# Altium schematic symbol library KT315 KT361.SchLib: 109 symbols (part 1 of 2)
Pins are listed as number, name and electrical type; pins without a type are passive.

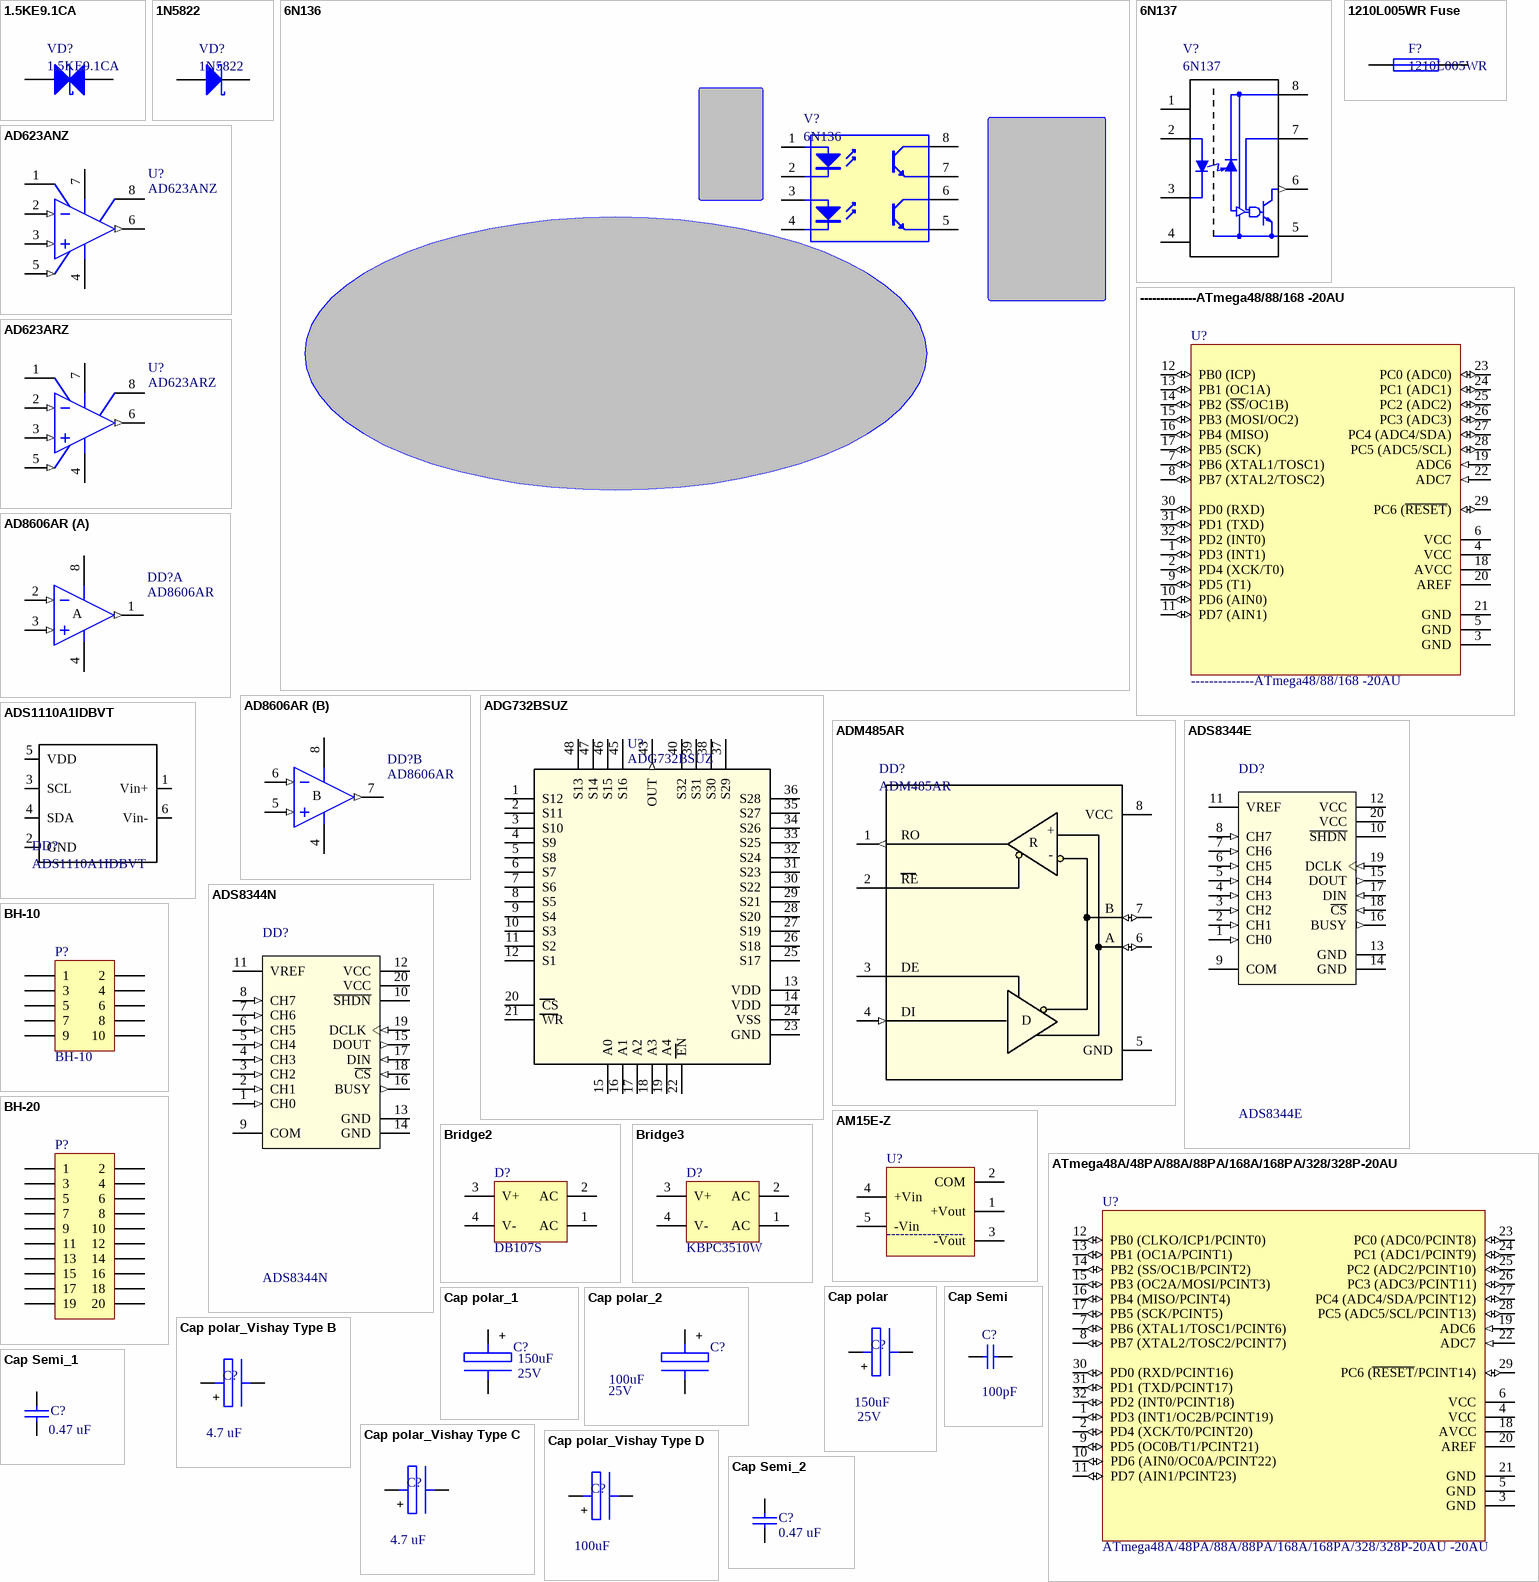
[diagram p0: symbols 1.5KE9.1CA to Cap Semi_2]

## 1.5KE9.1CA
designator VD?
Ограничитель напряжения 7.2В; Разработал: Сергеев
footprint DO-201AD (Diode, Axial; Body 9.5 x 5.6 mm (LxDia. max), Lead Dia. 1.32 mm (max))
footprint DO-201AD - VERTIKAL (Diode, Axial; Body 9.5 x 5.6 mm (LxDia. max), Lead Dia. 1.32 mm (max))
pins: 1 A, 2 K

## 1N5822
designator VD?
Диод шотки  3 A/80A, 40 V; Разработал: Сергеев; date_relize: 17.03.2011
footprint DO-201AD - VERTIKAL (Diode, Axial; Body 9.5 x 5.6 mm (LxDia. max), Lead Dia. 1.32 mm (max))
footprint DO-201AD - wa (Diode, Axial; Body 9.5 x 5.6 mm (LxDia. max), Lead Dia. 1.32 mm (max))
footprint DO-201AD (Diode, Axial; Body 9.5 x 5.6 mm (LxDia. max), Lead Dia. 1.32 mm (max))
pins: 1 A, 2 K

## 6N136
designator V?
Оптопара; Разработал: Сергеев
footprint DIP-8 (DIP; 8 Leads; Row Spacing 7.62 mm; Pitch 2.54 mm)
pins: 1 A "Anode", 2 K "Cathode", 3 A "Anode", 4 K "Cathode", 5 E "Emitter", 6 C "Collector", 7 E "Emitter", 8 C "Collector"

## 6N137
designator V?
Оптопара 10 Мбит/с; Разработал: Сергеев
footprint PDIP8 (8-Pin Plastic Dual In-Line Package (PDIP))
pins: 1 NC, 2 A "Anode", 3 K "Cathode", 4 NC, 5 GND (power), 6 Vo (out) "Output Voltage", 7 Ve "Enable Input Voltage Not to Exceed  V  CC  by more than 500mV", 8 Vcc (power)

## 1210L005WR Fuse
designator F?, comment 1210L005WR
Предохранитель 1210L005WR; Разработал: Сергеев; Фирма разработчик: WICKMANN; datasheet: ftp://ftp.efo.ru/pub/wickmann/Datasheets/Resettable/SMD1210.pdf
footprint SMD FUSE WICKMANN (Предохранитель СМД)
pins: 1, 2

## --------------ATmega48/88/168 -20AU
designator U?
8-Bit AVR Microcontroller with 8K Bytes of In-System Programmable Flash Memory; Published: 17-Sep-2003; LatestRevisionDate: 13-Apr-2006; LatestRevisionNote: IPC-7351 Footprint Added.; DatasheetVersion: 2486H-AVR-09/02; PackageVersion: revB, Oct-2001; PackageReference: 32A; Publisher: Altium Limited; PackageDescription: 32-Pin Thin Quad Flat Pack 0.8 mm Pitch; Code_JEDEC: MS-026-ABA; ComponentLink1Description: Manufacturer Link; ComponentLink1URL: http://www.atmel.com; ComponentLink2Description: Datasheet; ComponentLink2URL: http://www.atmel.com/dyn/resources/prod_documents/doc2486.pdf
3D model ATMEGA8L-32A (PCB3D Model)
footprint TQFP32_L (Thin QFP, 32-Leads, Body 7x7mm, Pitch 0.8mm, IPC High Density)
footprint TQFP32_M (Thin QFP, 32-Leads, Body 7x7mm, Pitch 0.8mm, IPC Low Density)
footprint TQFP32_N (Thin QFP, 32-Leads, Body 7x7mm, Pitch 0.8mm, IPC Medium Density)
pins: 1 PD3 (INT1) (io), 2 PD4 (XCK/T0) (io), 3 GND (power), 4 VCC (power), 5 GND (power), 6 VCC (power), 7 PB6 (XTAL1/TOSC1) (io), 8 PB7 (XTAL2/TOSC2) (io), 9 PD5 (T1) (io), 10 PD6 (AIN0) (io), 11 PD7 (AIN1) (io), 12 PB0 (ICP) (io), 13 PB1 (OC1A) (io), 14 PB2 (~{SS}/OC1B) (io), 15 PB3 (MOSI/OC2) (io), 16 PB4 (MISO) (io), 17 PB5 (SCK) (io), 18 AVCC (power), 19 ADC6 (in), 20 AREF, 21 GND (power), 22 ADC7 (in), 23 PC0 (ADC0) (io), 24 PC1 (ADC1) (io), 25 PC2 (ADC2) (io), 26 PC3 (ADC3) (io), 27 PC4 (ADC4/SDA) (io), 28 PC5 (ADC5/SCL) (io), 29 PC6 (~{RESET}) (io), 30 PD0 (RXD) (io), 31 PD1 (TXD) (io), 32 PD2 (INT0) (io)

## AD623ANZ
designator U?
Low-Cost, Low-Power Instrumentation Amplifier; Published: 21-Sep-2010; LatestRevisionDate: 21-Sep-2010; PackageVersion: revA; PackageReference: N-8; Publisher: Sergeev; PackageDescription: DIP; 8 Leads; Row Spacing 7.62 mm; Pitch 2.54 mm; ComponentLink1Description: Manufacturer Link; ComponentLink2Description: Datasheet
footprint DIP-8 (DIP; 8 Leads; Row Spacing 7.62 mm; Pitch 2.54 mm)
footprint DIP8-300 -- SO8-150-1.27 (DIP; 8 Leads; Row Spacing 7.62 mm; Pitch 2.54 mm, OIC, 8-Leads, Body 4.9x3.9mm, Pitch 1.27mm, IPC Medium Density)
pins: 1 RG, 2 -IN (in), 3 +IN (in), 4 V- (power), 5 REF (in), 6 OUT (out), 7 V+ (power), 8 RG

## AD623ARZ
designator U?
Low-Cost, Low-Power Instrumentation Amplifier; Published: 21-Sep-2010; LatestRevisionDate: 21-Sep-2010; PackageVersion: revA; PackageReference: N-8; Publisher: Sergeev; PackageDescription: DIP; 8 Leads; Row Spacing 7.62 mm; Pitch 2.54 mm; ComponentLink1Description: Manufacturer Link; ComponentLink2Description: Datasheet
footprint DIP8-300 -- SO8-150-1.27 (DIP; 8 Leads; Row Spacing 7.62 mm; Pitch 2.54 mm, OIC, 8-Leads, Body 4.9x3.9mm, Pitch 1.27mm, IPC Medium Density)
footprint SOP8_N (SOIC, 8-Leads, Body 4.9x3.9mm, Pitch 1.27mm, IPC Medium Density)
pins: 1 RG, 2 -IN (in), 3 +IN (in), 4 V- (power), 5 REF (in), 6 OUT (out), 7 V+ (power), 8 RG

## AD8606AR
designator DD?
Precision Dual Operational Amplifier,  Input 200fA; Note: Pin 8 is V+ and Case.; Published: 26-Nov-2009; Publisher: Sergeev; Dataqsheet: http://www.analog.com/static/imported-files/data_sheets/AD8605_8606_8608.pdf; Вevelopment: 03.03.2011
footprint SO8 182H_N (SOIC, 8-Leads, Body 4.9x3.9mm, Pitch 1.27mm, IPC Medium Density)
footprint SO8 182H_L (SOIC, 8-Leads, Body 4.9x3.9mm, Pitch 1.27mm, IPC High Density)
footprint SO8 182H_M (SOIC, 8-Leads, Body 4.9x3.9mm, Pitch 1.27mm, IPC Low Density)
pins on every part: 4 V- (power), 8 V+ (power)
part A pins: 1 OUT (out), 2 IN- (in), 3 IN+ (in)
part B pins: 5 IN+ (in), 6 IN- (in), 7 OUT (out)
part A text: A
part B text: B

## ADG732BSUZ
designator U?
Analog Multiplexers, Аналоговый Мультиплексор; Published: 26-Oct-2010; LatestRevisionDate: 26-Oсt-2010; PackageVersion: revA; PackageReference: TQFP48; Publisher: Sergeev; PackageDescription: 48-Lead Thin Plastic Quad Flatpack [TQFP]; Row Spacing 0.27 mm; Pitch 0.5 mm; ComponentLink1Description: Manufacturer Link; ComponentLink2Description: Datasheet; Datasheet: http://www.analog.com/static/imported-files/data_sheets/ADG726_732.pdf; Link: http://www.analog.com/ru/switchesmultiplexers/multiplexers-muxes/adg732/products/product.html
footprint TQFP48_M (48-Pin Thin Quad Flat Pack 0.5 mm Pitch, IPC Low Density)
footprint TQFP48_N (48-Pin Thin Quad Flat Pack 0.5 mm Pitch, IPC Medium Density)
footprint TQFP48_L (48-Pin Thin Quad Flat Pack 0.5 mm Pitch, IPC High Density)
pins: 1 S12, 2 S11, 3 S10, 4 S9, 5 S8, 6 S7, 7 S6, 8 S5, 9 S4, 10 S3, 11 S2, 12 S1, 13 VDD, 14 VDD, 15 A0, 16 A1, 17 A2, 18 A3, 19 A4, 20 CS, 21 WR, 22 EN, 23 GND, 24 VSS, 25 S17, 26 S18, 27 S19, 28 S20, 29 S21, 30 S22, 31 S23, 32 S24, 33 S25, 34 S26, 35 S27, 36 S28, 37 S29, 38 S30, 39 S31, 40 S32, 41 NC hidden, 42 NC hidden, 43 OUT (out), 44 NC hidden, 45 S16, 46 S15, 47 S14, 48 S13

## ADM485AR
designator DD?
Драйвер RS-485, Автоматическое определение направления передачи, приема информации; Разработал: Сергеев
footprint SO8 182H_N (SOIC, 8-Leads, Body 4.9x3.9mm, Pitch 1.27mm, IPC Medium Density)
pins: 1 RO (out) "proba", 2 RE "proba", 3 DE "proba", 4 DI (in) "proba", 5 GND (power) "proba", 6 A (io) "proba", 7 B (io) "proba", 8 VCC (power) "proba"
text: +; R; -; D

## ADS1110A1IDBVT
designator DD?
ADC 16 bit, Internal Ref 2.048V; Publisher: Sergeev; data: 08.12.2011; Datasheet: http://chip-nn.ru/doc/all/3138/3138.zip
footprint SOT23-6 (SOT-457/SC-74; 6 Leads; Body 3 x 3 mm, inc. leads (LxW max))
pins: 1 Vin+ "proba", 2 GND "proba", 3 SCL "proba", 4 SDA "proba", 5 VDD "proba", 6 Vin- "proba"

## ADS8344E
designator DD?
Published: 01-Mar-2012; LatestRevisionDate: 01-Mar-2012; LatestRevisionNote: (IPC-7351 Footprint Added.); DatasheetVersion: 2486H-AVR-09/02; PackageVersion: (revB, Oct-2001); PackageReference: DB; Publisher: Sergeev E. M.; PackageDescription: 20-Pin DB PLASTIC SMALL-OUTLINE Pack 0.65 mm Pitch; Code_JEDEC: (MS-026-ABA); ComponentLink1Description: Manufacturer Link; ComponentLink1URL: http://www.ti.com/lit/ds/symlink/ads8344.pdf; ComponentLink2Description: Datasheet; ComponentLink2URL: http://www.ti.com/lit/ds/symlink/ads8344.pdf
footprint DBQ020_N (SOP, 20-Leads, Body 8.7x3.9mm, Pitch 0.635mm, IPC Medium Density)
footprint DBQ020_L (SOP, 20-Leads, Body 8.7x3.9mm, Pitch 0.635mm, IPC High Density)
footprint DBQ020_M (SOP, 20-Leads, Body 8.7x3.9mm, Pitch 0.635mm, IPC Low Density)
footprint DBQ020 (SSOP; 20 Leads; Body Width 3.9 mm; Pitch 0.64 mm)
3D model DBQ020 (PCB3D Model)
pins: 1 CH0 (in), 2 CH1 (in), 3 CH2 (in), 4 CH3 (in), 5 CH4 (in), 6 CH5 (in), 7 CH6 (in), 8 CH7 (in), 9 COM (power), 10 ~{SHDN}, 11 VREF, 12 VCC (power), 13 GND (power), 14 GND (power), 15 DOUT (out), 16 BUSY (out), 17 DIN (in), 18 ~{CS} (in), 19 DCLK (in), 20 VCC (power)

## ADS8344N
designator DD?
Published: 01-Mar-2012; LatestRevisionDate: 01-Mar-2012; LatestRevisionNote: (IPC-7351 Footprint Added.); DatasheetVersion: 2486H-AVR-09/02; PackageVersion: (revB, Oct-2001); PackageReference: DB; Publisher: Sergeev E. M.; PackageDescription: 20-Pin DB PLASTIC SMALL-OUTLINE Pack 0.65 mm Pitch; Code_JEDEC: (MS-026-ABA); ComponentLink1Description: Manufacturer Link; ComponentLink1URL: http://www.ti.com/lit/ds/symlink/ads8344.pdf; ComponentLink2Description: Datasheet; ComponentLink2URL: http://www.ti.com/lit/ds/symlink/ads8344.pdf
footprint DB020_N (SOP, 20-Leads, Body 7.2x5.3mm, Pitch 0.65mm, IPC Medium Density)
footprint DB020_L (SOP, 20-Leads, Body 7.2x5.3mm, Pitch 0.65mm, IPC High Density)
footprint DB020_M (SOP, 20-Leads, Body 7.2x5.3mm, Pitch 0.65mm, IPC Low Density)
footprint DB020 (SSOP, Plastic; 20 Leads; Body Width 5.3 mm; Pitch 0.65 mm)
3D model DB020 (PCB3D Model)
pins: 1 CH0 (in), 2 CH1 (in), 3 CH2 (in), 4 CH3 (in), 5 CH4 (in), 6 CH5 (in), 7 CH6 (in), 8 CH7 (in), 9 COM (power), 10 ~{SHDN}, 11 VREF, 12 VCC (power), 13 GND (power), 14 GND (power), 15 DOUT (out), 16 BUSY (out), 17 DIN (in), 18 ~{CS} (in), 19 DCLK (in), 20 VCC (power)

## AM15E-Z
designator U?, comment -----------------
DC-DC Conventor; покупка: efo.ru; Published: 09-Feb-2010; PackageReference: AM15E-Z; Publisher: Сергеев; Datasheet: efo. powel.ru am15e-z.pdf
footprint AM15E-Z (DC-DC www.aimtec.com Series AM15E-Z)
pins: 1 +Vout, 2 COM, 3 -Vout, 4 +Vin, 5 -Vin

## ATmega48A/48PA/88A/88PA/168A/168PA/328/328P-20AU
designator U?, comment ATmega48A/48PA/88A/88PA/168A/168PA/328/328P-20AU -20AU
8-Bit AVR Microcontroller with 8K Bytes of In-System Programmable Flash Memory; Published: 17-Sep-2003; LatestRevisionDate: 13-Apr-2006; LatestRevisionNote: IPC-7351 Footprint Added.; DatasheetVersion: 2486H-AVR-09/02; PackageVersion: revB, Oct-2001; PackageReference: 32A; Publisher: Altium Limited; PackageDescription: 32-Pin Thin Quad Flat Pack 0.8 mm Pitch; Code_JEDEC: MS-026-ABA; ComponentLink1Description: Manufacturer Link; ComponentLink1URL: http://www.atmel.com; ComponentLink2Description: Datasheet; ComponentLink2URL: http://www.atmel.com/dyn/resources/prod_documents/doc2486.pdf
3D model ATMEGA8L-32A (PCB3D Model)
footprint TQFP32_L (Thin QFP, 32-Leads, Body 7x7mm, Pitch 0.8mm, IPC High Density)
footprint TQFP32_M (Thin QFP, 32-Leads, Body 7x7mm, Pitch 0.8mm, IPC Low Density)
footprint TQFP32_N (Thin QFP, 32-Leads, Body 7x7mm, Pitch 0.8mm, IPC Medium Density)
pins: 1 PD3 (INT1/OC2B/PCINT19) (io), 2 PD4 (XCK/T0/PCINT20) (io), 3 GND (power), 4 VCC (power), 5 GND (power), 6 VCC (power), 7 PB6 (XTAL1/TOSC1/PCINT6) (io), 8 PB7 (XTAL2/TOSC2/PCINT7) (io), 9 PD5 (OC0B/T1/PCINT21) (io), 10 PD6 (AIN0/OC0A/PCINT22) (io), 11 PD7 (AIN1/PCINT23) (io), 12 PB0 (CLKO/ICP1/PCINT0) (io), 13 PB1 (OC1A/PCINT1) (io), 14 PB2 (SS/OC1B/PCINT2) (io), 15 PB3 (OC2A/MOSI/PCINT3) (io), 16 PB4 (MISO/PCINT4) (io), 17 PB5 (SCK/PCINT5) (io), 18 AVCC (power), 19 ADC6 (in), 20 AREF, 21 GND (power), 22 ADC7 (in), 23 PC0 (ADC0/PCINT8) (io), 24 PC1 (ADC1/PCINT9) (io), 25 PC2 (ADC2/PCINT10) (io), 26 PC3 (ADC3/PCINT11) (io), 27 PC4 (ADC4/SDA/PCINT12) (io), 28 PC5 (ADC5/SCL/PCINT13) (io), 29 PC6 (~{RESET}/PCINT14) (io), 30 PD0 (RXD/PCINT16) (io), 31 PD1 (TXD/PCINT17) (io), 32 PD2 (INT0/PCINT18) (io)

## BH-10
designator P?
Header, 5-Pin, Dual row 2.54; LatestRevisionDate: 17-Jul-2002; LatestRevisionNote: Re-released for DXP Platform.; Publisher: Altium Limited
signal-integrity model Connector
footprint BH-10 HDR2X5 (Connector; Header; 5x2 Position)
footprint BH-10  2x5 mini (Connector; Header; 5x2 Position)
footprint BH-10 HDR2X5 - wide area (Connector; Header; 5x2 Position)
footprint BH-10  2x5 mini - wa (Connector; Header; 5x2 Position)
pins: 1, 2, 3, 4, 5, 6, 7, 8, 9, 10

## BH-20
designator P?  (value not drawn)
Header, 10-Pin, Dual row; LatestRevisionDate: 17-Jul-2002; LatestRevisionNote: Re-released for DXP Platform.; Publisher: Sergeev
signal-integrity model Connector
footprint BH20 2X10 (Connector; Header; 10x2 Position)
footprint BH20 2X10 MINI (Connector; Header; 10x2 Position)
footprint BH20 2X10 - wide area (Connector; Header; 10x2 wide area)
pins: 1, 2, 3, 4, 5, 6, 7, 8, 9, 10, 11, 12, 13, 14, 15, 16, 17, 18, 19, 20

## Bridge2
designator D?, comment DB107S
Diode Bridge 1A, 1000V, SMD; Published: 01-Feb-2010; PackageReference: DB-1S; Publisher: Сергеев; покупка: http://chip-nn.ru/47.php; Datasheet: http://chip-nn.ru/doc/diode-bridge/db107s/db107s.zip; Datasheet: http://www.terraelectronica.ru/pdf/DC/DB107.pdf
footprint DB-1S
pins: 1 AC, 2 AC, 3 V+, 4 V-

## Bridge3
designator D?, comment KBPC3510W
Diode Bridge 35A, 1000V, Na Platy; Published: 01-Feb-2010; PackageReference: DB-1S; Publisher: Сергеев; покупка: http://chip-nn.ru/47.php; Datasheet: http://chip-nn.ru/doc/diode-bridge/kbpc2510/kbpc2510.zip; Datasheet: http://www.terraelectronica.ru/pdf/DC/DB107.pdf
footprint KBPC (KBPC3510W  28,4mm x 28,4mm)
footprint KBL (KBL10  6,5mm x 19,5mm,  4A, 1000V)
pins: 1 AC, 2 AC, 3 V+, 4 V-

## Cap polar
designator C?  value 150uF  Volt: 25V  (hidden comment: Cap polar)
Capacitor (Model Sergeev); Published: 17-Mar-2010; Publisher: Sergeev
footprint OCK52-1 (8x22 Советский танталовый общая длинна 34 мм)
footprint Cap 8x12 (между выводами 4 мм, d =0.6)
footprint K53-1A (D=8 h=16 d=0.8 Советский, общая длинна min = 26 мм)
footprint Cap LZ D= 13 h= 35 d = 0.9 (между выводами 4.7 мм, d =0.9)
footprint Cap_Mini (D=8.4 d=0.6 S=3.5)
footprint LZ 12x26 2200 мкФ x 25 В (D=12.0 d=0.7 S=4.4)
footprint LZ 18.5x36 4700 мкФ x 35 В (D=18.5 d=0.8 S=7.0)
footprint Jamicon 108C2(M) WL 8.2x16.5 1000 мкФ x 10 В (D=8.2 d=0.6 S=3.5 h=16.5)
footprint SAMWHA RD ANA PET  13.0x21.0 1000 мкФ x 35 В (D=13.0 d=0.6 S=5.5 h=21.0)
footprint SAMWHA RD B4A PET  10.2x17.5 470 мкФ x 35 В (D=10.2 d=0.6 S=5.0 h=17.5)
footprint SD W1C 6.5x12 470 мкФ x 10 В (D=6.5 d=0.5 S=2.5 h=12)
signal-integrity model CAP Polar
simulation model CAP (Capacitor)
pins: 1, 2
text: +

## Cap polar_1
designator C?  value 150uF  Volts: 25V  (hidden comment: Cap polar_1)
Capacitor (Model Sergeev); Published: 17-Mar-2010; Publisher: Sergeev
footprint OCK52-1 (8x22 Советский танталовый общая длинна 34 мм)
footprint Cap 8x12 (между выводами 4 мм, d =0.6)
footprint K53-1A (D=8 h=16 d=0.8 Советский, общая длинна min = 26 мм)
footprint Cap LZ D= 13 h= 35 d = 0.9 (между выводами 4.7 мм, d =0.9)
footprint Cap_Mini (D=8.4 d=0.6 S=3.5)
footprint LZ 12x26 2200 мкФ x 25 В (D=12.0 d=0.7 S=4.4)
footprint Jamicon 108C2(M) WL 8.2x16.5 1000 мкФ x 10 В (D=8.2 d=0.6 S=3.5 h=16.5)
footprint SAMWHA RD ANA PET  13.0x21.0 1000 мкФ x 35 В (D=13.0 d=0.6 S=5.5 h=21.0)
footprint SAMWHA RD B4A PET  10.2x17.5 470 мкФ x 35 В (D=10.2 d=0.6 S=5.0 h=17.5)
footprint SD W1C 6.5x12 470 мкФ x 10 В (D=6.5 d=0.5 S=2.5 h=12)
footprint LZ 18.5x36 4700 мкФ x 35 В (D=18.5 d=0.8 S=7.0)
simulation model CAP (Cap Polar)
signal-integrity model Capacitors (Cap Polar)
pins: 1, 2
text: +

## Cap polar_2
designator C?  value 100uF  Volts: 25V  (hidden comment: Cap polar_2)
Capacitor (Model Sergeev); Published: 17-Mar-2010; Publisher: Sergeev
footprint OCK52-1 (8x22 Советский танталовый общая длинна 34 мм)
footprint Cap 8x12 (между выводами 4 мм, d =0.6)
footprint K53-1A (D=8 h=16 d=0.8 Советский, общая длинна min = 26 мм)
footprint Cap LZ D= 13 h= 35 d = 0.9 (между выводами 4.7 мм, d =0.9)
footprint Cap_Mini (D=8.4 d=0.6 S=3.5)
footprint LZ 12x26 2200 мкФ x 25 В (D=12.0 d=0.7 S=4.4)
footprint Jamicon 108C2(M) WL 8.2x16.5 1000 мкФ x 10 В (D=8.2 d=0.6 S=3.5 h=16.5)
footprint LZ 18.5x36 4700 мкФ x 35 В (D=18.5 d=0.8 S=7.0)
footprint SAMWHA RD ANA PET  13.0x21.0 1000 мкФ x 35 В (D=13.0 d=0.6 S=5.5 h=21.0)
footprint SAMWHA RD B4A PET  10.2x17.5 470 мкФ x 35 В (D=10.2 d=0.6 S=5.0 h=17.5)
footprint SD W1C 6.5x12 470 мкФ x 10 В (D=6.5 d=0.5 S=2.5 h=12)
simulation model CAP (Capacitors)
signal-integrity model Cap (Capacitors polar)
pins: 1, 2
text: +

## Cap polar_Vishay Type B
designator C?  value 4.7 uF  (hidden comment: Cap polar_Vishay Type B)
Capacitor (Model Sergeev); Published: 03-Dec-2010; Publisher: Sergeev
footprint 3528 - Type B (Capacitor, SM Tantalum; Body 3.5 x 2.8 mm (LxW typ))
simulation model Model Name (Model Description)
signal-integrity model Model Name (Model Description)
footprint 3528 - Type B - WA (Capacitor, SM Tantalum; Body 3.5 x 2.8 mm (LxW typ))
pins: 1, 2
text: +

## Cap polar_Vishay Type C
designator C?  value 4.7 uF  (hidden comment: Cap polar_Vishay Type C)
Capacitor (Model Sergeev); Published: 03-Dec-2010; Publisher: Sergeev
footprint 6032 - Type C (Capacitor, SM Tantalum; Body 6.0 x 3.2 mm (LxW typ))
simulation model Model Name (Model Description)
signal-integrity model Model Name (Model Description)
pins: 1, 2
text: +

## Cap polar_Vishay Type D
designator C?  value 100uF  (hidden comment: Cap polar_Vishay Type D)
Capacitor (Model Sergeev); Published: 17-Mar-2010; Publisher: Sergeev
footprint 7343 - Type D (Capacitor, SM Tantalum; Body 7.3 x 4.3 mm (LxW typ))
simulation model Model Name (Model Description)
signal-integrity model Model Name (Model Description)
pins: 1, 2
text: +

## Cap Semi
designator C?  value 100pF  (hidden comment: Cap Semi)
Capacitor (Semiconductor SIM Model); Published: 17-Mar-2010; PackageReference: C1206; Publisher: Sergeev
footprint C1206 (Chip Capacitor; Body 3.2 x 1.6 mm (LxW typ))
footprint C0805 (Chip Capacitor; Body 2.0 x 1.2 mm (LxW typ))
footprint 2012[0805] (Chip Resistor; Body 2.0 x 1.3 mm (LxW typ))
footprint К10-17б (Конденсатор Русский неполярный)
footprint C0805 - wa (Chip Capacitor; Body 2.0 x 1.2 mm (LxW typ))
pins: 1, 2

## Cap Semi_1
designator C?  value 0.47 uF  (hidden comment: Cap Semi_1)
Capacitor (Semiconductor SIM Model); Published: 17-Mar-2010; PackageReference: C1206; Publisher: Sergeev
footprint C1206 (Chip Capacitor; Body 3.2 x 1.6 mm (LxW typ))
footprint C0805 (Chip Capacitor; Body 2.0 x 1.2 mm (LxW typ))
footprint 2012[0805] (Chip Resistor; Body 2.0 x 1.3 mm (LxW typ))
footprint К10-17б (Конденсатор Русский неполярный)
pins: 1, 2

## Cap Semi_2
designator C?  value 0.47 uF  (hidden comment: Cap Semi_2)
Capacitor (Semiconductor SIM Model); Published: 17-Mar-2010; PackageReference: C1206; Publisher: Sergeev
footprint C1206 (Chip Capacitor; Body 3.2 x 1.6 mm (LxW typ))
footprint C0805 (Chip Capacitor; Body 2.0 x 1.2 mm (LxW typ))
footprint 2012[0805] (Chip Resistor; Body 2.0 x 1.3 mm (LxW typ))
footprint К10-17б (Конденсатор Русский неполярный)
pins: 1, 2

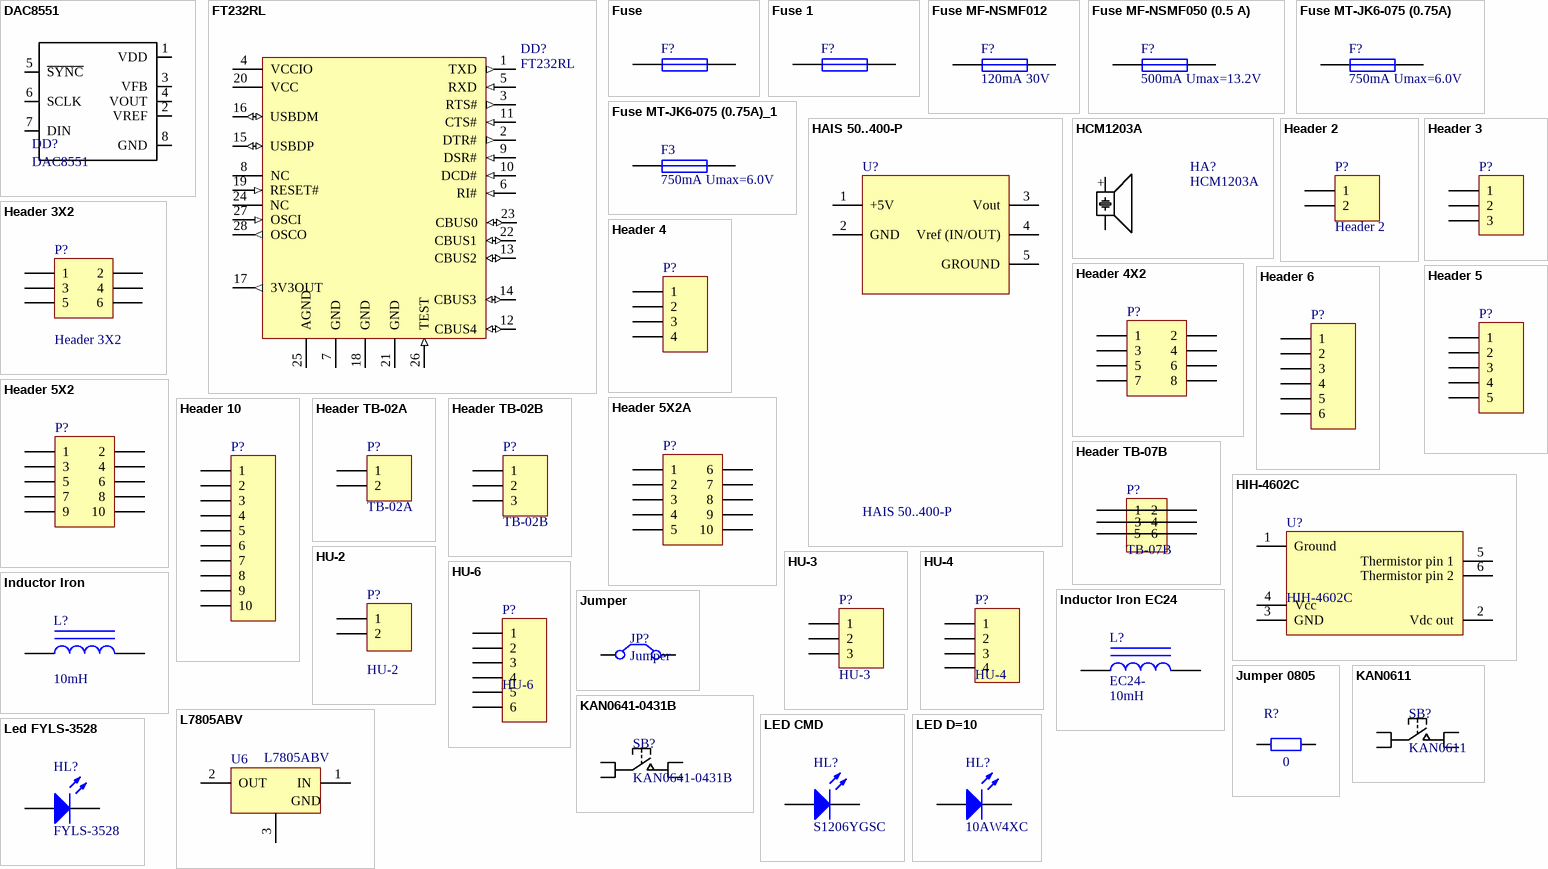
[diagram p1: symbols DAC8551 to Led FYLS-3528]

## DAC8551
designator DD?
DAC 16 bit; Publisher: Sergeev; data: 30.11.2009
footprint MSOP8
pins: 1 VDD "proba", 2 VREF "proba", 3 VFB "proba", 4 VOUT "proba", 5 ~{SYNC} "proba", 6 SCLK "proba", 7 DIN "proba", 8 GND "proba"

## FT232RL
designator DD?
USB UART Asynchronous Serial Data Transfer Chip, LQFP-32; Published: 8-Dec-2009; Publisher: Sergeev; PackageReference: 28 Pin SSOP Package Pin Out; PackageDescription: This package has a 5.30mm x 10.20mm body ( 7.80mm x 10.20mm including pins ). The pins are on a 0.65 mm pitch. The above mechanical drawing shows the SSOP-28 package – all dimensions are in millimetres.
footprint SSOP28 (SSOP, Plastic; 28 Leads; Body Width 5.3 mm; Pitch 0.65 mm)
pins: 1 TXD (out), 2 DTR# (out), 3 RTS# (out), 4 VCCIO (power), 5 RXD (in), 6 RI# (in), 7 GND (power), 8 NC, 9 DSR# (in), 10 DCD# (in), 11 CTS# (in), 12 CBUS4 (io), 13 CBUS2 (io), 14 CBUS3 (io), 15 USBDP (io), 16 USBDM (io), 17 3V3OUT (out), 18 GND (power), 19 RESET# (in), 20 VCC (power), 21 GND (power), 22 CBUS1 (io), 23 CBUS0 (io), 24 NC, 25 AGND (power), 26 TEST (in), 27 OSCI (in), 28 OSCO (out)

## Fuse
designator F?  (value not drawn)
Published: 8-Jun-2000; LatestRevisionDate: 17-Jul-2002; LatestRevisionNote: Re-released for DXP Platform.; PackageReference: PIN-W2/E2.8; Publisher: Altium Limited
simulation model FUSE (Spice Subcircuit)
footprint Fuse JK30-400 (4A) (Самовосстанавливающийся предохранитель 4A)
footprint Fuse JK30-200 (2A) (Самовосстанавливающийся предохранитель 2A)
footprint Fuse H520PT (5x20 mm)
footprint 1206 Fuse (Chip Fuse Body 3.1 x 1.6 mm (LxW typ))
pins: 1, 2

## Fuse 1
designator F?  (value not drawn)
Fuse; Published: 8-Jun-2000; LatestRevisionDate: 17-Jul-2002; LatestRevisionNote: Re-released for DXP Platform.; PackageReference: PIN-W2/E2.8; Publisher: Altium Limited
simulation model FUSE (Spice Subcircuit)
footprint Fuse (5x20 mm)
pins: 1, 2

## Fuse MF-NSMF012
designator F?, comment 120mA 30V
Fuse Предохранитель самовосстанавливающийсяSMD1206, Ih=0.12A, Umax=30V, Imax=10A, R=0,35..8,5 Ом; Продавец: Chip-nn.ru; Published: 8-Jun-2000; LatestRevisionDate: 17-Jul-2002; LatestRevisionNote: Re-released for DXP Platform.; PackageReference: PIN-W2/E2.8; Publisher: Altium Limited; Datasheet: http://chip-nn.ru/doc/all/2337/2337.zip
simulation model FUSE (Spice Subcircuit)
footprint 1206 Fuse (Chip Fuse Body 3.1 x 1.6 mm (LxW typ))
pins: 1, 2

## Fuse MF-NSMF050 (0.5 A)
designator F?, comment 500mA Umax=13.2V
Fuse Предохранитель самовосстанавливающийсяSMD1206, Ih=0.50A, Umax=13.2V, Imax=100A, R=0,15..0,7 Ом; Продавец: Chip-nn.ru; Published: 8-Jun-2000; LatestRevisionDate: 17-Jul-2002; LatestRevisionNote: Re-released for DXP Platform.; PackageReference: PIN-W2/E2.8; Publisher: Altium Limited; Datasheet: http://chip-nn.ru/doc/all/2337/2337.zip
simulation model FUSE (Spice Subcircuit)
footprint 1206 Fuse (Chip Fuse Body 3.1 x 1.6 mm (LxW typ))
pins: 1, 2

## Fuse MT-JK6-075 (0.75A)
designator F?, comment 750mA Umax=6.0V
Fuse Предохранитель самовосстанавливающийся Ih=0.75A, Umax=6.V, Imax=40A, R=0.2..0.5 Ом; Продавец: Chip-nn.ru; Published: 8-Jun-2000; LatestRevisionDate: 17-Jul-2002; LatestRevisionNote: Re-released for DXP Platform.; PackageReference: PIN-W2/E2.8; Publisher: Altium Limited; Datasheet: http://chip-nn.ru/doc/all/2337/2337.zip
simulation model FUSE (Spice Subcircuit)
footprint MT-JK6-075 (Fuse.Style F2. Предохранитель самовосстанавливающийся. 0.75A)
pins: 1, 2

## Fuse MT-JK6-075 (0.75A)_1
designator F3, comment 750mA Umax=6.0V
Fuse Предохранитель самовосстанавливающийся Ih=0.75A, Umax=6.V, Imax=40A, R=0.2..0.5 Ом; Продавец: Chip-nn.ru; Published: 8-Jun-2000; LatestRevisionDate: 17-Jul-2002; LatestRevisionNote: Re-released for DXP Platform.; PackageReference: PIN-W2/E2.8; Publisher: Altium Limited; Datasheet: http://chip-nn.ru/doc/all/2337/2337.zip
simulation model FUSE (Spice Subcircuit)
footprint MT-JK6-075 (Fuse.Style F2. Предохранитель самовосстанавливающийся. 0.75A)
pins: 1, 2

## HAIS 50..400-P
designator U?
Датчик тока фирмы LEM; Published: 17-Sep-2003; DatasheetVersion: 081224/9; PackageReference: LEM 50..400-P; Publisher: Sergeev; PackageDescription: 6-Pin; ComponentLink1Description: Manufacturer Link; ComponentLink2Description: Datasheet; Datasheet: http://www.lem.com/docs/products/hais_e.pdf; Datasheet rus: http://www.fek.by/doc/components/L_O/Lem/hais50-400-p.pdf
footprint HAIS 50..400-P (Датчик тока фирмы LEM)
pins: 1 +5V (power), 2 GND (power), 3 Vout (power), 4 Vref (IN/OUT) (power), 5 GROUND (power), 6 NC hidden

## HCM1203A
designator HA?
Zymmer. Electro-Magnetic Sound Generators; Published: 04-Nov-2010; LatestRevisionDate: 04-Nov-2010; PackageVersion: revA; Publisher: Sergeev; PackageDescription: D=12, h=9, d=0.6; ComponentLink1Description: Manufacturer Link; ComponentLink2Description: Datasheet; Datasheet: http://chip-nn.ru/doc/all/2417/2417.zip; Link: http://chip-nn.ru/doc/all/2417/2417.zip
footprint HCM1203A (D=12, h=9, d=0.6)
pins: 1 +, 2 -

## Header 2
designator P?
Header, 2-Pin; LatestRevisionDate: 27-Nov-2010; LatestRevisionNote: Re-released for DXP Platform.; Publisher: Sergeev
footprint HDR1X2 (Connector; Header; 2 Position)
signal-integrity model Connector
footprint HDR1X2H (Connector; Header; 2 Position; Right Angle)
footprint HDR1X2 - wide area (Connector; Header; 2 Position)
footprint HDR1X2H - wide area (Connector; Header; 2 Position; Right Angle)
pins: 1, 2

## Header 3
designator P?  (value not drawn)
Header, 3-Pin; LatestRevisionDate: 17-Jul-2002; LatestRevisionNote: Re-released for DXP Platform.; Publisher: Altium Limited
footprint HDR1X3 - wide area (Connector; Header; 3 Position)
footprint HDR1X3 (Connector; Header; 3 Position)
signal-integrity model Connector
pins: 1, 2, 3

## Header 3X2
designator P?
Header, 3-Pin, Dual row; LatestRevisionDate: 12-Dec-2010; LatestRevisionNote: Re-released for DXP Platform.; Publisher: Altium Limited
signal-integrity model Connector
footprint HDR2X3 (Connector; Header; 3x2 Position)
footprint HDR2X3 - wa (Connector; Header; 3x2 Position)
footprint HDR2X3H (Connector; Header; 3x2 Position; Right Angle)
footprint HDR2X3H - wa (Connector; Header; 3x2 Position; Right Angle)
pins: 1, 2, 3, 4, 5, 6

## Header 4
designator P?
Header, 4-Pin; LatestRevisionDate: 17-Jul-2002; LatestRevisionNote: Re-released for DXP Platform.; Publisher: Altium Limited
signal-integrity model Connector
footprint HDR1X4 - WA (Разъем двухрядный, шаг 2,54 мм.)
footprint HDR1X4 (Разъем двухрядный, шаг 2,54 мм.)
pins: 1, 2, 3, 4

## Header 4X2
designator P?
Header, 4-Pin, Dual row; LatestRevisionDate: 17-Jul-2002; LatestRevisionNote: Re-released for DXP Platform.; Publisher: Altium Limited
footprint HDR2X4 (Connector; Header; 4x2 Position)
signal-integrity model Connector
footprint HDR2X4 - wide area (Connector; Header; 4x2 Position)
pins: 1, 2, 3, 4, 5, 6, 7, 8

## Header 5
designator P?
Header, 5-Pin; LatestRevisionDate: 17-Jul-2002; LatestRevisionNote: Re-released for DXP Platform.; Publisher: Altium Limited
footprint HDR1X5 (Connector; Header; 5 Position)
signal-integrity model Connector
footprint HDR1X5 - wide area (Connector; Header; 5 Position)
pins: 1, 2, 3, 4, 5

## Header 5X2
designator P?
Header, 5-Pin, Dual row; LatestRevisionDate: 17-Jul-2002; LatestRevisionNote: Re-released for DXP Platform.; Publisher: Altium Limited
signal-integrity model Connector
footprint HDR2X5 - WA (Разъем двухрядный, шаг 2,54 мм.)
footprint HDR2X5 (Разъем двухрядный, шаг 2,54 мм.)
pins: 1, 2, 3, 4, 5, 6, 7, 8, 9, 10

## Header 5X2A
designator P?
Header, 5-Pin, Dual row; LatestRevisionDate: 17-Jul-2002; LatestRevisionNote: Re-released for DXP Platform.; Publisher: Altium Limited
signal-integrity model Connector
footprint HDR2X5_CEN - WA (Разъем двухрядный, шаг 2,54 мм.)
footprint HDR2X5_CEN (Разъем двухрядный, шаг 2,54 мм.)
pins: 1, 2, 3, 4, 5, 6, 7, 8, 9, 10

## Header 6
designator P?
Header, 6-Pin; LatestRevisionDate: 17-Jul-2002; LatestRevisionNote: Re-released for DXP Platform.; Publisher: Altium Limited
signal-integrity model Connector
footprint HDR1X6 (Connector; Header; 6 Position)
footprint HDR1X6 - wide area (Connector; Header; 6 Position)
pins: 1, 2, 3, 4, 5, 6

## Header 10
designator P?
Header, 10-Pin; LatestRevisionDate: 17-Jul-2002; LatestRevisionNote: Re-released for DXP Platform.; Publisher: Altium Limited
footprint HDR1X10 - wa (Connector; Header; 10 Position)
signal-integrity model Connector
footprint HDR1X10 (Connector; Header; 10 Position)
pins: 1, 2, 3, 4, 5, 6, 7, 8, 9, 10

## Header TB-02A
designator P?, comment TB-02A
Клеммник кopoткий 2-Pin, 5mm; LatestRevisionDate: 21-Янв-2010; LatestRevisionNote: Re-released for DXP Platform.; Publisher: Сергеев; site: http://www.brownbear.ru/goods/2869.html
signal-integrity model Connector
footprint TB-02A (Клеммник короткий http://www.brownbear.ru/goods/2869.html)
pins: 1, 2

## Header TB-02B
designator P?, comment TB-02B
Header, 3-Pin; LatestRevisionDate: 19-Mar-2010
signal-integrity model Connector
footprint TB-02B (Клеммник короткий http://www.brownbear.ru/goods/2869.html)
footprint SMD_Header_3 (SMD - 3 Pin, Header)
pins: 1, 2, 3

## Header TB-07B
designator P?, comment TB-07B
Клеммник с зажимом 6-Pin, 5mm; LatestRevisionDate: 21-Янв-2010; LatestRevisionNote: Re-released for DXP Platform.; Publisher: Сергеев; site: http://www.brownbear.ru/goods/2869.html
signal-integrity model Connector
footprint TB-07B (клемник http://www.brownbear.ru/goods/2886.html)
footprint TB-07B - WA (клемник http://www.brownbear.ru/goods/2886.html)
pins: 1, 2, 3, 4, 5, 6

## HIH-4602C
designator U?
Датчик влажности; Разработал: Сергеев; LatestRevisionDate: 01-Дек-2010; Закупка: http://www.brownbear.ru/goods/1651.html
footprint H06C TO-5 (Can; 8 Leads (2 Absent); Pin Circle Dia. 5.08 mm; Lead Dia. 0.48 mm (max))
pins: 1 Ground, 2 Vdc out, 3 GND (power), 4 Vcc (power), 5 Thermistor pin 1, 6 Thermistor pin 2

## HU-2
designator P?
Header, 2-Pin; Разработал: Сергеев; LatestRevisionDate: 03-Сен-2010; Закупка: http://www.brownbear.ru/goods/1651.html
signal-integrity model Connector
footprint HU-2 - wa (Connector; Header; 4 Position Бурый медведь)
footprint HU-2 (Connector; Header; 4 Position Бурый медведь)
pins: 1, 2

## HU-3
designator P?
Header, 3-Pin; Разработал: Сергеев; LatestRevisionDate: 03-Сен-2010; Закупка: http://www.brownbear.ru/goods/1651.html
signal-integrity model Connector
footprint HU-3 - WA (Connector; Header; 4 Position)
footprint HU-3 (Connector; Header; 4 Position)
pins: 1, 2, 3

## HU-4
designator P?
Header, 4-Pin; Разработал: Сергеев; LatestRevisionDate: 03-Сен-2010; Закупка: http://www.brownbear.ru/goods/1651.html
signal-integrity model Connector
footprint HU-4 (Connector; Header; 4 Position)
footprint HU-4H (Connector; Header; 4 Position; Right Angle)
footprint HU-4 - wide area (Connector; Header; 4 Position)
pins: 1, 2, 3, 4

## HU-6
designator P?
Header, 6-Pin; Разработал: Сергеев; LatestRevisionDate: 02-Дек-2010; Закупка: http://www.brownbear.ru/goods/1651.html
signal-integrity model Connector
footprint HU-6 (Connector; Header; 6 Position)
footprint HU-6 - wide area (Connector; Header; 6 Position)
pins: 1, 2, 3, 4, 5, 6

## Inductor Iron
designator L?  value 10mH  (hidden comment: Inductor Iron)
Magnetic-Core Inductor; Published: 17-Mar-2010; Publisher: Sergeev
footprint Inductor (D=10mm, shag=2.5mm)
footprint 2220 (Chip Capacitor, Inductor Murata; Body 5.7 x 5.0 mm (LxW typ))
footprint Inductor comp (Индуктивность компьютерная. D=20mm, h=9mm, шаг=8мм, d=1.3mm)
footprint Inductor M1000HM (Индуктивность. D=20mm, h=22mm, шаг=8мм, d=1.4mm)
footprint CDRH127 (Индуктивность, Sumida)
pins: 1, 2

## Inductor Iron EC24
designator L?, comment EC24-  value 10mH
Magnetic-Core Inductor; Published: 17-Mar-2010; Publisher: Sergeev
footprint EC24 (Индуктивность)
footprint EC24 - w_13 (Индуктивность)
footprint EC24 - w_16 (Индуктивность)
pins: 1, 2

## Jumper
designator JP?
Jumper перемычка; Publisher: Sergeev; data: 24.10.2010
footprint Jumper 10 (Jumper  перемычка 10 мм)
pins: 1 C1, 2 C2

## Jumper 0805
designator R?  value 0  (hidden comment: Jumper 0805)
Перемычка; Product: Сергеев Е. М.
footprint 2012[0805] - Jumper - wa (Chip Resistor; Body 2.0 x 1.3 mm (LxW typ))
footprint 2012[0805] - Jumper (Jumper. Перемычка. Chip Resistor; Body 2.0 x 1.3 mm (LxW typ))
pins: 1, 2

## KAN0611
designator SB?
Button DIP; Published: 03-Feb-2010; Publisher: Сергеев; http://chip-nn.ru/11.php: http://chip-nn.ru/doc/connector/kan0641-0431b/kan0641-0431b.zip
footprint KAN0611 (Кнопка тактовая, DIP, 6.5х4.5, h=5.0 мм, 13.0 мм)
pins: 1 COMMON, 2 NO, 3, 4

## KAN0641-0431B
designator SB?
Button SMD; Published: 03-Feb-2010; Publisher: Сергеев; http://chip-nn.ru/11.php: http://chip-nn.ru/doc/connector/kan0641-0431b/kan0641-0431b.zip
footprint KAN0641-0431B (Кнопка тактовая, SMD, 6.0х6.0, h=4.3 мм)
pins: 1 COMMON, 2 NO, 3, 4

## L7805ABV
designator U6
Precision 1A Regulator; Note: Tab is connected to pin 3 (GND).; Published: 24-Aug-2001; LatestRevisionDate: 17-Jul-2002; LatestRevisionNote: Re-released for DXP Platform.; DatasheetVersion: Nov-1999; PackageVersion: Jun-1998; PackageReference: TO220ABN; Publisher: Altium Limited; PackageDescription: TO, Thru-Hole, Vertical, Heatsink Mounted; 3 In-Line Leads; Pitch 2.54 mm; Pin sequence 1, 3, 2; ComponentLink1Description: Manufacturer Link; ComponentLink1URL: http://www.st.com/; ComponentLink2Description: Datasheet; ComponentLink2URL: http://www.st.com/stonline/products/literature/ds/2144/l7805ab.pdf
footprint TO220ABN (TO, Thru-Hole, Vertical, Heatsink Mounted; 3 In-Line Leads; Pitch 2.54 mm; Pin sequence 1, 3, 2)
pins: 1 IN (power), 2 OUT (power), 3 GND (power)

## LED CMD
designator HL?, comment S1206YGSC
Typical INFRARED GaAs LED; Published: 4-Feb-2010; PackageReference: SMD 1206; Publisher: Сергеев; магазин: http://chip-nn.ru/67.php; Datasheet: http://chip-nn.ru/doc/led/s1206ygsc/s1206ygsc.zip
footprint C1206 (Chip Capacitor; Body 3.2 x 1.6 mm (LxW typ))
footprint Led_Rus D=6 d=0.9 w=2.6 (Светодиод D=6 d=0.9 V=2.5V Rn=~150R)
footprint C1206 - WA (Led; Body 3.2 x 1.6 mm (LxW typ))
pins: 1 A, 2 K

## LED D=10
designator HL?, comment 10AW4XC
Typical INFRARED GaAs LED; Published: 17-Nov-2010; PackageReference: D=10; Publisher: Сергеев; магазин: http://chip-nn.ru/67.php; Datasheet: http://chip-nn.ru/doc/led/s1206ygsc/s1206ygsc.zip
footprint Led_Rus D=10 d=0.9 w=2.54 (Светодиод D=10 d=0.6 V=2.5V Rn=~300-270R)
pins: 1 A, 2 K

## Led FYLS-3528
designator HL?, comment FYLS-3528
LED SMD; Published: 4-Apr-2011; PackageReference: SMD; Publisher: Сергеев; магазин: http://chip-nn.ru/67.php; Datasheet: http://chip-nn.ru/doc/all/2569/2569.zip
footprint FYLS-3528 SMD - wa (Foryard SMD Светодиод)
footprint FYLS-3528 SMD (Foryard SMD Светодиод)
footprint FYLS-3528 SMD - between Layer (Foryard SMD Светодиод)
pins: 1 K, 2 A

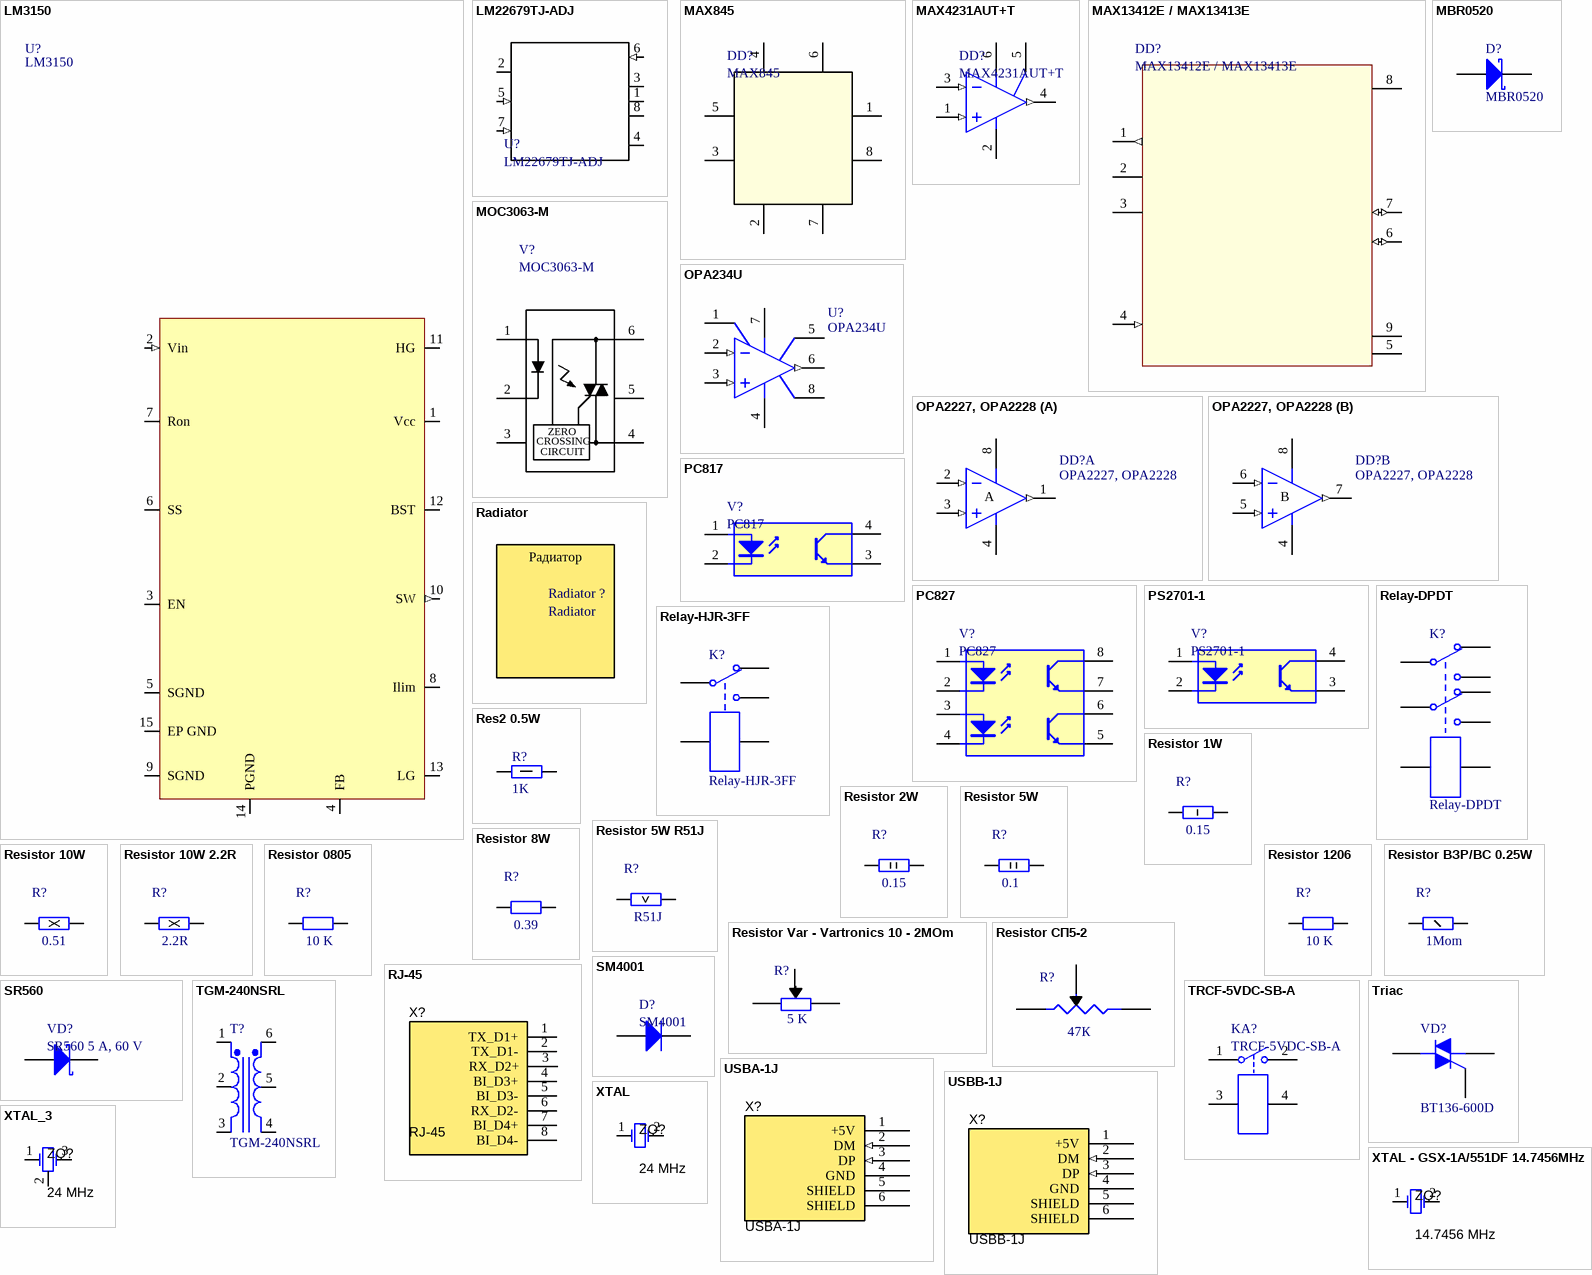
[diagram p2: symbols LM3150 to XTAL_3]

## LM3150
designator U?
DC/DC Buck Controller; Text Field4: NATIONAL SEMICONDUCTOR
footprint MXA14AM
pins: 1 Vcc, 2 Vin (in), 3 EN, 4 FB, 5 SGND (power), 6 SS, 7 Ron, 8 Ilim, 9 SGND (power), 10 SW (out), 11 HG, 12 BST, 13 LG, 14 PGND (power), 15 EP GND (power)

## LM22679TJ-ADJ
designator U?
Стабилизатор напряжения 5А до 40В; Publisher: Sergeev; data: 22.06.2010
footprint TO-263 THIN Exposed Pad TJ7A (National)
pins: 1 "proba", 2 "proba", 3 "proba", 4 "proba", 5 (in) "proba", 6 (in) "proba", 7 (in) "proba", 8 "proba"

## MAX845
designator DD?
DC/DC Isolated Transformer Driver; Разработал: Сергеев; ГОД: 22.12.2009
footprint UMAX8 (Shrink Small Outline; 8 Leads; Body Width 3 mm; Pitch 0.65 mm)
pins: 1 "D1", 2 (power) "D1", 3 "D1", 4 "Shutdown SD = VCC", 5 "NC", 6 (power) "D1", 7 (power) "D1", 8 "D1"

## MAX4231AUT+T
designator DD?
footprint SOT23-6 (SOT-457/SC-74; 6 Leads; Body 3 x 3 mm, inc. leads (LxW max))
footprint SC70-6 (2.4mm x 2.2mm)
pins: 1 IN+ (in), 2 V- (power), 3 IN- (in), 4 OUT (out), 5 SHDN "proba", 6 V+ (power)

## MAX13412E / MAX13413E
designator DD?
Драйвер RS-485, Автоматическое определение направления передачи, приема информации; Разработал: Сергеев
footprint SO8-EP (SOIC, 8-Leads, Body 4.9x3.9mm, Pitch 1.27mm, IPC Low Density)
pins: 1 (out) "proba", 2 (power) "proba", 3 (power) "proba", 4 (in) "proba", 5 (power) "proba", 6 (io) "proba", 7 (io) "proba", 8 (power) "proba", 9 (power) "proba"

## MBR0520
designator D?
Schottky Rectifier; Note: No PCB Footprint Available; Published: 29-Dec-2009; LatestRevisionNote: Re-released for DXP Platform.; PackageReference: SOD-123; Publisher: Sergeev
footprint SOD-123
pins: 1 A, 2 K

## MOC3063-M
designator V?
Оптопара  ZERO-CROSS (600V PEAK) 6-PIN DIP; Разработал: Сергеев; Data: 18-Mar-2010
footprint PDIP6 (6-Pin Plastic Dual In-Line Package (PDIP) Row Spacing 9 mm; Pitch 2.54 mm)
pins: 1 A "Anode", 2 K "Cathode", 3 NC, 4 MAIN TERM. (power), 5 NC, 6 MAIN TERM.
text: ZERO; CROSSING; CIRCUIT

## OPA234U
designator U?
Ultra-Low Offset Voltage Operational Amplifier; Note: Pin 5 is not connected.; Published: 8-Jun-2000; LatestRevisionDate: 04-Mar-2005; LatestRevisionNote: Stylized 3D Model Added.; DatasheetVersion: 1992; PackageVersion: 1998; PackageReference: Q-8; Publisher: Altium Limited; PackageDescription: DIP; 8 Leads; Row Spacing 7.62 mm; Pitch 2.54 mm; ComponentLink1Description: Manufacturer Link; ComponentLink1URL: http://www.analog.com/en/prod/0,,759_786_OP77%2C00.html; ComponentLink2Description: Datasheet; ComponentLink2URL: http://www.analog.com/UploadedFiles/Data_Sheets/206654345OP77_c.pdf; Время: 10.11.2011
3D model Q-8 (PCB3D Model)
footprint PDIP8 (8-Pin Plastic Dual In-Line Package (PDIP))
pins: 1 VOSTRIM, 2 IN- (in), 3 IN+ (in), 4 V- (power), 5 VOSTRIM, 6 OUT (out), 7 V+ (power), 8 NC

## OPA2227, OPA2228
designator DD?
Precision Dual Difet Operational Amplifier; Note: Pin 8 is V+ and Case.; Published: 26-Nov-2009; Publisher: Sergeev
footprint SO8 182H_L (SOIC, 8-Leads, Body 4.9x3.9mm, Pitch 1.27mm, IPC High Density)
footprint SO8 182H_M (SOIC, 8-Leads, Body 4.9x3.9mm, Pitch 1.27mm, IPC Low Density)
footprint SO8 182H_N (SOIC, 8-Leads, Body 4.9x3.9mm, Pitch 1.27mm, IPC Medium Density)
footprint PDIP8 (8-Pin Plastic Dual In-Line Package (PDIP))
pins on every part: 4 V- (power), 8 V+ (power)
part A pins: 1 OUT (out), 2 IN- (in), 3 IN+ (in)
part B pins: 5 IN+ (in), 6 IN- (in), 7 OUT (out)
part A text: A
part B text: B

## PC817
designator V?
Оптопара; Разработал: Сергеев
footprint DIP-4 (DIP; 4 Leads; Row Spacing 7.62 mm; Pitch 2.54 mm)
footprint DIP-4 SMT- PC817 (DIP; 4 Leads; Row Spacing 8.2 mm; Pitch 2.54 mm)
pins: 1 A "Anode", 2 K "Cathode", 3 E "Emitter", 4 C "Collector"

## PC827
designator V?
Оптопара; Разработал: Сергеев
footprint DIP-8 (DIP; 8 Leads; Row Spacing 7.62 mm; Pitch 2.54 mm)
pins: 1 A "Anode", 2 K "Cathode", 3 A "Anode", 4 K "Cathode", 5 E "Emitter", 6 C "Collector", 7 E "Emitter", 8 C "Collector"

## PS2701-1
designator V?
Оптопара; Разработал: Сергеев; магазин: brownbear.ru; год: 01-Feb-2010; datasheet: http://pdf.eicom.ru/datasheets/nec_pdfs/ps2701-1/ps2701-1.pdf
footprint SOP4_N (SOIC, 8-Leads, Body 4.5x4.5mm, Pitch 2.54mm, IPC Medium Density)
pins: 1 A "Anode", 2 K "Cathode", 3 E "Emitter", 4 C "Collector"

## Radiator
designator Radiator ?  (mechanical)
Производитель: Китай; Библиотека: Сергеева; Ссылка: http://chip-nn.ru/84.php
footprint BLA024-25 (Радиатор BLA024-25)
text: Радиатор

## Relay-DPDT
designator K?
Dual-Pole Dual-Throw Relay; Редактировал: Sergeev; ГОСТ: GOST2.755-87.pdf   ГОСТ 2.756-76; Published: 24-Mar-1999; LatestRevisionDate: 17-Jul-2002; LatestRevisionNote: Re-released for DXP Platform.; PackageReference: DIP-P8; Publisher: Altium Limited; Дата изменения: 05.12.2011; Datasheet: http://www.tianbo-relay.com/bigimg/2.pdf; Datasheet_2: http://www.fek.by/doc/components/T_Z/Tianbo/hjr1-2c.pdf; ГОСТ: http://www.iesoft.ru/uslugi-obuchenie-konsalting/razrabotka-baz-dannyh/bdforacaderia; ГОСТ: http://www.iesoft.ru/cad-po-napravleniyam/baza-dannyh-elektrotehnicheskih-oboznachenii-dlya-autocad-electrical; ГОСТ: http://www.elektroshema.ru/disk; ГОСТ: http://www.elektroshema.ru/is-komplekt; ГОСТ: http://www.elektroshema.ru/esis
footprint HJR1-2C (Реле тип HJR1-2C. Две пары на замыкание, две пары на размыкание)
simulation model DPDTRELAY (Spice Subcircuit)
simulation model DPDTRELAY (Model Description)
pins: 1, 4, 6, 8, 9, 11, 13, 16

## Relay-HJR-3FF
designator K?
Single-Pole Dual-Throw Relay; Published: 24-Mar-1999; LatestRevisionDate: 17-Jul-2002; LatestRevisionNote: Re-released for DXP Platform.; PackageReference: MODULE5B; Publisher: Altium Limited
simulation model SPDTRELAY (Spice Subcircuit)
footprint HJR-3FF (Реле тип HJR-3FF)
pins: 1, 2, 3, 4, 5

## Res2 0.5W
designator R?, comment value 1K  (hidden comment: Res 0.5W)
Resistor 0.5W; Published: 5-Feb-2010; Publisher: Сергеев
simulation model RESISTOR (Resistor)
signal-integrity model Res
footprint OMLT 0.5W (D=4.2mm, L=10.8mm, l=25mm, d=0.8mm)
footprint OMLT 0.5W - SMD (D=4.2mm, L=10.8mm, l=25mm, d=0.8mm)
footprint OMLT 0.5W - SMD mini (D=4.2mm, L=10.8mm, l=25mm, d=0.8mm)
pins: 1, 2

## Resistor 1W
designator R?, comment value 0.15  (hidden comment: Resistor 1W С5-16МВ)
С5-16МВ  Проволочные прецизионные резисторы; Value: 0,1-2  Ом; Product: Сергеев Е. М.; Data: 09.12.2011; Описание: http://www.promelec.ru/catalog_info/52/110/429/438/
footprint С5-16МВ_1W-10 - WA (Резистор - 1 Вт  постоянный, проволочный прецизионный. D=9mm,  L=19mm, l=20mm - вывод)
footprint С5-16МВ_1W-10 (Резистор - 1 Вт  постоянный, проволочный прецизионный. D=9mm,  L=19mm, l=20mm - вывод)
footprint С5-16МВ_1W-5 - WA (Резистор - 1 Вт  постоянный, проволочный прецизионный. D=9mm,  L=19mm, l=20mm - вывод)
footprint С5-16МВ_1W-5 (Резистор - 1 Вт  постоянный, проволочный прецизионный. D=9mm,  L=19mm, l=20mm - вывод)
pins: 1, 2

## Resistor 2W
designator R?, comment value 0.15  (hidden comment: Resistor 2W С5-16МВ)
С5-16МВ  Проволочные прецизионные резисторы; Value: 0,1-2  Ом; Product: Сергеев Е. М.; Data: 09.12.2011; Описание: http://www.promelec.ru/catalog_info/52/110/429/438/
footprint С5-16МВ_2W-10 - WA (Резистор - 2 Вт  постоянный, проволочный прецизионный. D=11mm,  L=24mm, l=20mm - вывод)
footprint С5-16МВ_2W-10 (Резистор - 2 Вт  постоянный, проволочный прецизионный. D=11mm,  L=24mm, l=20mm - вывод)
footprint С5-16МВ_2W-5 - WA (Резистор - 2 Вт  постоянный, проволочный прецизионный. D=11mm,  L=24mm, l=20mm - вывод)
footprint С5-16МВ_2W-5 (Резистор - 2 Вт  постоянный, проволочный прецизионный. D=11mm,  L=24mm, l=20mm - вывод)
pins: 1, 2

## Resistor 5W
designator R?, comment value 0.1  (hidden comment: Resistor 5W С5-16МВ)
С5-16МВ  Проволочные прецизионные резисторы; Value: 0.1-5.1  Ом; Product: Сергеев Е. М.; Data: 09.12.2011; Описание: http://www.promelec.ru/catalog_info/52/110/429/438/
footprint С5-16МВ_5W-10 - WA (Резистор - 5 Вт  постоянный, проволочный прецизионный. D=11mm,  L=32mm, l=20mm - вывод)
footprint С5-16МВ_5W-10 (Резистор - 5 Вт  постоянный, проволочный прецизионный. D=11mm,  L=32mm, l=20mm - вывод)
footprint С5-16МВ_5W-5 - WA (Резистор - 5 Вт  постоянный, проволочный прецизионный. D=11mm,  L=32mm, l=20mm - вывод)
footprint С5-16МВ_5W-5 (Резистор - 5 Вт  постоянный, проволочный прецизионный. D=11mm,  L=32mm, l=20mm - вывод)
pins: 1, 2

## Resistor 5W R51J
designator R?  value R51J  (hidden comment: Resistor 5W R51J)
Product: Сергеев Е. М.
footprint Resistor 5W 2mm
footprint Resistor 5W 5mm
pins: 1, 2

## Resistor 8W
designator R?, comment value 0.39  (hidden comment: Resistor 8W С5-16М)
С5-16М  Проволочные прецизионные резисторы; Value: 0.39-10.0  Ом; Product: Сергеев Е. М.; Data: 09.12.2011; Описание: http://www.promelec.ru/catalog_info/52/110/429/438/
footprint С5-16М_8W-10 - WA (Резистор - 8 Вт  постоянный, проволочный прецизионный. D=12mm,  L=41mm, l=20mm - вывод)
footprint С5-16М_8W-10 (Резистор - 8 Вт  постоянный, проволочный прецизионный. D=12mm,  L=41mm, l=20mm - вывод)
footprint С5-16М_8W-5 - WA (Резистор - 8 Вт  постоянный, проволочный прецизионный. D=12mm,  L=41mm, l=20mm - вывод)
footprint С5-16М_8W-5 (Резистор - 8 Вт  постоянный, проволочный прецизионный. D=12mm,  L=41mm, l=20mm - вывод)
pins: 1, 2

## Resistor 10W
designator R?, comment value 0.51  (hidden comment: Resistor 10W С5-16М)
С5-16М  Проволочные прецизионные резисторы; Value: 0.51-10.0  Ом; Product: Сергеев Е. М.; Data: 09.12.2011; Описание: http://www.promelec.ru/catalog_info/52/110/429/438/
footprint С5-16М_10W-10 - WA (Резистор - 10 Вт  постоянный, проволочный прецизионный. D=12mm,  L=51mm, l=20mm - вывод)
footprint С5-16М_10W-10 (Резистор - 10 Вт  постоянный, проволочный прецизионный. D=12mm,  L=51mm, l=20mm - вывод)
footprint С5-16М_10W-5 - WA (Резистор - 10 Вт  постоянный, проволочный прецизионный. D=12mm,  L=51mm, l=20mm - вывод)
footprint С5-16М_10W-5 (Резистор - 10 Вт  постоянный, проволочный прецизионный. D=12mm,  L=51mm, l=20mm - вывод)
pins: 1, 2

## Resistor 10W 2.2R
designator R?  value 2.2R  (hidden comment: Resistor 10W 2.2R)
Разработал: Сергеев Е. М.; Name: Resistor
footprint Resistor 10W 2mm
footprint Resistor 10W 5mm
pins: 1, 2

## Resistor 0805
designator R?  value 10 K  (hidden comment: Resistor 0805)
Product: Сергеев Е. М.
footprint 2012[0805] - wa (Chip Resistor; Body 2.0 x 1.3 mm (LxW typ))
footprint 2012[0805] (Chip Resistor; Body 2.0 x 1.3 mm (LxW typ))
pins: 1, 2

## Resistor 1206
designator R?  value 10 K  (hidden comment: Resistor 1206)
Product: Сергеев Е. М.
footprint 1206 (Chip Resistor; Body 3.1 x 1.6 mm (LxW typ))
footprint 1206 - wa (Chip Resistor; Body 3.1 x 1.6 mm (LxW typ))
pins: 1, 2

## Resistor Var - Vartronics 10 - 2MOm
designator R?  value 5 K  (hidden comment: Resistor Var - Vartronics 10 - 2MOm)
Подстроечный резистор; Name: Resistor Var Vatconics; Разработчик: Сергеев Е. М.; Name: 10 Om - 10 MOm
footprint Resistor Vatronics 3296Z
footprint Resistor Vatronics 3296Y
footprint Resistor Vatronics 3296X
footprint Resistor Vatronics 3296W
pins: 1 A, 2 TAP, 3 B

## Resistor ВЗР/ВС 0.25W
designator R?  value 1Mom  (hidden comment: Resistor ВЗР/ВС 0.25W)
L=16.5, D=5.7, h=25,d=1.6, S=0.4 Зеленые советские; Product: Сергеев Е. М.
footprint RES 0.25W 1Mom - PIN (Pin)
footprint RES 0.25W 1Mom (SMD)
pins: 1, 2

## Resistor СП5-2
designator R?  Name: 47К  (hidden comment: Resistor СП5-2)
Разработчик: Сергеев Е. М.; Name: СП5-2
footprint Resistor СП5-2
pins: 1 A, 2 TAP, 3 B

## RJ-45
designator X?
Разъем RJ-45 на плату; Разработчик: Сергеев; PRICE: 0,1
footprint RJ-45
footprint RJ-45 - WA
pins: 1 TX_D1+, 2 TX_D1-, 3 RX_D2+, 4 BI_D3+, 5 BI_D3-, 6 RX_D2- (power), 7 BI_D4+, 8 BI_D4-

## SM4001
designator D?
Диод SMD 1A, 1000V; Разработал: Сергеев; купить: http://chip-nn.ru/44.php; Datasheet: http://www.terraelectronica.ru/pdf/DC/SM4007.pdf
footprint MELF (Metal Electrode Face (MELF) Diode; Body 5 x 2.5 mm (LxDia))
footprint DO-41 (Diode, Axial; Body 5.2 x 2.7 mm (LxDia. max), Lead Dia. 0.86 mm (max))
footprint DO-41 - Big (Diode, Axial; Body 5.2 x 2.7 mm (LxDia. max), Lead Dia. 0.86 mm (max))
pins: 1 A, 2 K

## SR560
designator VD?, comment SR560 5 A, 60 V
Диод шотки 5 A, 60 V; Разработал: Сергеев
footprint DO-27 (Diode, Axial; Body 9.5 x 5.6 mm (LxDia. max), Lead Dia. 1.32 mm (max))
footprint DO-27 - VERTIKAL (Diode, Axial; Body 9.5 x 5.6 mm (LxDia. max), Lead Dia. 1.32 mm (max))
footprint DO-27 - wide area (Diode, Axial; Body 9.5 x 5.6 mm x 26 mm (LxDia. max), Lead Dia. 1.32 mm (max))
pins: 1 A, 2 K

## TGM-240NSRL
designator T?
Center-Tapped Transformer (Ideal); Published: 22-Dec-2009; PackageReference: NS Package; Publisher: Сергеев
footprint TGM-240NS - NS Package (NS Package; 6 Leads; Row Spacing 8.2 mm; Pitch 2.54 mm)
pins: 1, 2, 3, 4, 5, 6

## TRCF-5VDC-SB-A
designator KA?
Реле 5 Вольт; Разработал: Сергеев; год: 25.01.2010
footprint TRCF-5VDC-SB-A (Реле 5 вольт)
pins: 1, 2, 3, 4

## Triac
designator VD?, comment BT136-600D
Silicon Bidirectional Triode Thyristor; Published: 18-Mar-2010; Publisher: Sergeev; Code_JEDEC: TO-220-AB; ComponentLink1Description: http://chip-nn.ru/doc/triac/bt136-600d/bt136-600d.zip; ComponentLink1URL: http://chip-nn.ru/12.php
footprint TO-220-AB (TO, Thru-Hole, Vertical, Heatsink Mounted; 3 In-Line Leads; Pitch 2.54 mm)
footprint TO-220AB (TO, Thru-Hole, Vertical, Heatsink Mounted; 3 In-Line Leads; Pitch 2.54 mm)
pins: 1 M1, 2 M2, 3 G

## USBA-1J
designator X?
Разъем USBA на плату; PRICE: 0,1
footprint USB2.5-2H4 (Connector; USB1.1, Series A, Reverse Type, Thru-Hole; 4 Position; Right Angle)
footprint USB2.5-2H4A (Connector; USB1.1, Series A, Reverse Type, Thru-Hole; 4 Position; Right Angle)
footprint USB2.5-2H4C (Connector; USB1.1, Type A, Thru-Hole; 4 Position; Right Angle)
footprint USB2.5-2H4B (Connector; USB1.1, Type A, Thru-Hole; 4 Position; Right Angle)
footprint USB2.5-2V4A (Connector; USB1.1, Type A, Thru-Hole; 4 Position; Vertical)
pins: 1 +5V (power), 2 DM (in), 3 DP (in), 4 GND (power), 5 SHIELD (power), 6 SHIELD (power)

## USBB-1J
designator X?
Разъем USBB на плату; Разработчик: Сергеев; PRICE: 0,1
footprint USB2.5-2H4D (Connector; USB1.1, Type B, Thru-Hole; 4 Position; Right Angle)
footprint USB2.5-2H4G (Connector; USB1.1, Type B, Thru-Hole; 4 Position; Right Angle)
footprint USB2.5-2V4 (Connector; USB1.1, Type B, Thru-Hole; 4 Position; Vertical)
footprint USB/SM0.8-6H5 (Connector; USB2.0, Type B, SM; 5 Position; Right Angle)
footprint USB/SM1.25-4H4 (Connector; USB1.1, Type B, SM; 4 Position; Right Angle)
footprint USB0.8-2V5 (Connector; USB Mini-B, Type 2, Thru-Hole; 5 Position; Vertical)
footprint USB/SM0.8-4H5 (Connector; USB Mini-B, Sinking Type, SM; 5 Position; Right Angle)
footprint USB2.5-4V4 (Connector; USB1.1, Type B, Thru-Hole; 4 Position; Vertical)
footprint USB2.5-2H4F (Connector; USB1.1, Type B, Thru-Hole; 4 Position; Right Angle)
footprint USB2.5-2H4E (Connector; USB1.1, Type B, Thru-Hole; 4 Position; Right Angle)
pins: 1 +5V (power), 2 DM (in), 3 DP (in), 4 GND (power), 5 SHIELD (power), 6 SHIELD (power)

## XTAL
designator ZQ?, comment 24 MHz
Crystal Oscillator; Published: 8-Jun-2000; LatestRevisionDate: 17-Jul-2002; LatestRevisionNote: Re-released for DXP Platform.; PackageReference: R38; Publisher: Altium Limited
footprint HC49S
footprint HC49SMD
pins: 1 OSC1, 2 OSC2

## XTAL - GSX-1A/551DF 14.7456MHz
designator ZQ?, comment 14.7456 MHz
16pf Crystal Oscillator Кварцевый резонатор. Кварц.; Published: 19-Des-2011; LatestRevisionDate: 17-Jul-2002; LatestRevisionNote: Re-released for DXP Platform.; PackageReference: R38; Publisher: Altium Limited; Datasheet: ftp://ftp.efo.ru/pub/golledge/gsx1.pdf; Datasheet2: http://efo.ru/doc/Golledge/Golledge.pl?340; C: 16pf
footprint GSX-1A (Кварцевый резонатор)
footprint GSX-1A - wa (Кварцевый резонатор)
pins: 1 OSC1, 2 OSC2

## XTAL_3
designator ZQ?, comment 24 MHz
Crystal Oscillator 3 Pin; Published: 8-Jun-2000; LatestRevisionDate: 30-MAR-2010; LatestRevisionNote: Re-released for DXP Platform.; Publisher: Altium Limited
footprint UM-1J (Crystal)
footprint HC-49US (Quartz Crystal, Thru-Hole; 3 Leads; Body 11.35 x 5 x 3.5 mm (LxWxH max))
pins: 1 OSC1, 2, 3 OSC2

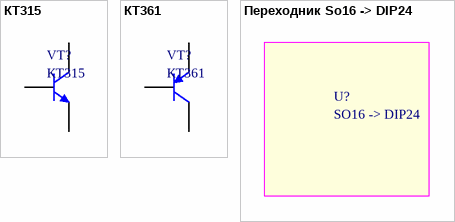
[diagram p3: symbols КТ315 to Переходник So16 -> DIP24]

## КТ315
designator VT?
NPN General Purpose Amplifier; Разработчик: Сергеев Е. М.; Name: КТ315
footprint Tranzistor KT315 KT361
footprint Tranzistor SMD KT315 KT361
pins: 1 B, 2 C, 3 E